# EAGLE library part DS1210-8PDIP (library maxim-custom)
The DS1210 Nonvolatile Controller Chip is a CMOS circuit which solves the application problem of converting CMOS RAM into nonvolatile memory. Incoming power is monitored for an out-of-tolerance condition. When such a condition is detected, chip enable is inhibited to accomplish write protection and the battery is switched on to supply the RAM with uninterrupted power.
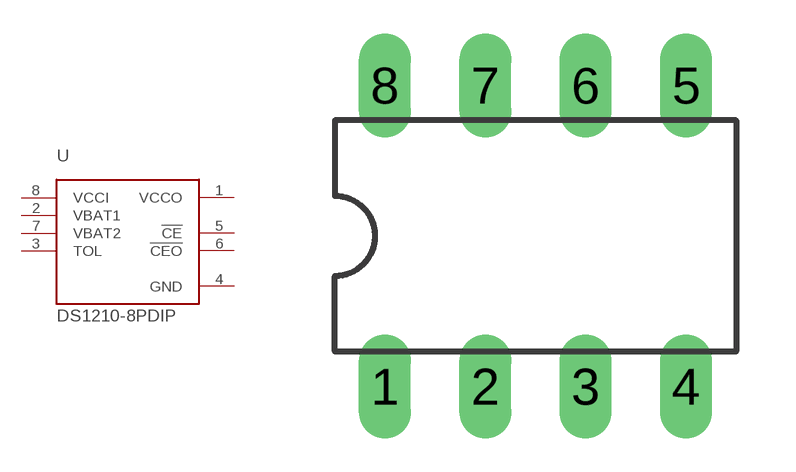
[diagram p0: symbol with the pads of DIL08; footprint DIL08]

Designator prefix -

## DS1210-8PDIP  [DIL08]
1  VCCO
2  VBAT1
3  TOL
4  GND
5  !CE
6  !CEO
7  VBAT2
8  VCCI

## Footprint DIL08 (pad centres in mm)
Dual In Line Package
drill 0.813 long: 1 -3.81,-3.81; 2 -1.27,-3.81; 3 1.27,-3.81; 4 3.81,-3.81; 5 3.81,3.81; 6 1.27,3.81; 7 -1.27,3.81; 8 -3.81,3.81